# Altium schematic symbol library Infineon Technologies.SchLib: 4 symbols
Pins are listed as number, name and electrical type; pins without a type are passive.

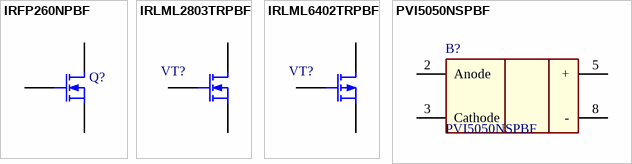
[diagram p0: symbols IRFP260NPBF to PVI5050NSPBF]

## IRFP260NPBF
designator Q?
N-канал 200В 49А; Manufcturer: International Rectifier; PurtNumber: IRFP260NPBF
simulation model IRLML2803 (MOSFET-N)
pins: 1 D, 2 G, 3 S

## IRLML2803TRPBF
designator VT?  (value not drawn)
N-канал 30В 1.2А; Manufacturer: International Rectifier; PurtNumber: IRLML2803TRPBF; ComponentLink1Description: Datasheet; ComponentLink1URL: https://www.infineon.com/dgdl/irlml2803.pdf?fileId=5546d462533600a40153566818f7260b
footprint SOT23_L (SOT23, 3-Leads, Body 2.9x1.3mm, Pitch 0.95mm, Lead Span 2.3mm - Reverse Pinning, IPC High Density)
simulation model IRLML2803 (Model Description)
pins: 1 G, 2 S, 3 D

## IRLML6402TRPBF
designator VT?  (value not drawn)
P-канал 20 В 3.7 А; Manufacturer: International Rectifier; ComponentLink1Description: Datasheet; ComponentLink1URL: https://www.infineon.com/dgdl/irlml2803.pdf?fileId=5546d462533600a40153566818f7260b; PurtNumber: IRLML6402TRPBF
footprint SOT23_L (SOT23, 3-Leads, Body 2.9x1.3mm, Pitch 0.95mm, Lead Span 2.3mm - Reverse Pinning, IPC High Density); pin to pad 1>3 3>1
simulation model IRLML6402 (Model Description)
pins: 1 G, 2 S, 3 D

## PVI5050NSPBF
designator B?
Фотодиодные выходные оптопары 1 Form A Photo Voltaic Isolator; ComponentLink1Description: DS; ComponentLink1URL: https://ru.mouser.com/datasheet/2/196/Infineon-PVI1050N-DS-v01_00-EN-1512038.pdf
footprint DIP-8 Gull Wing
pins: 2 Anode, 3 Cathode, 5 +, 8 -